# Altium schematic symbol library STM32H743ZI.SchLib: 1 symbol
Pins are listed as number, name and electrical type; pins without a type are passive.

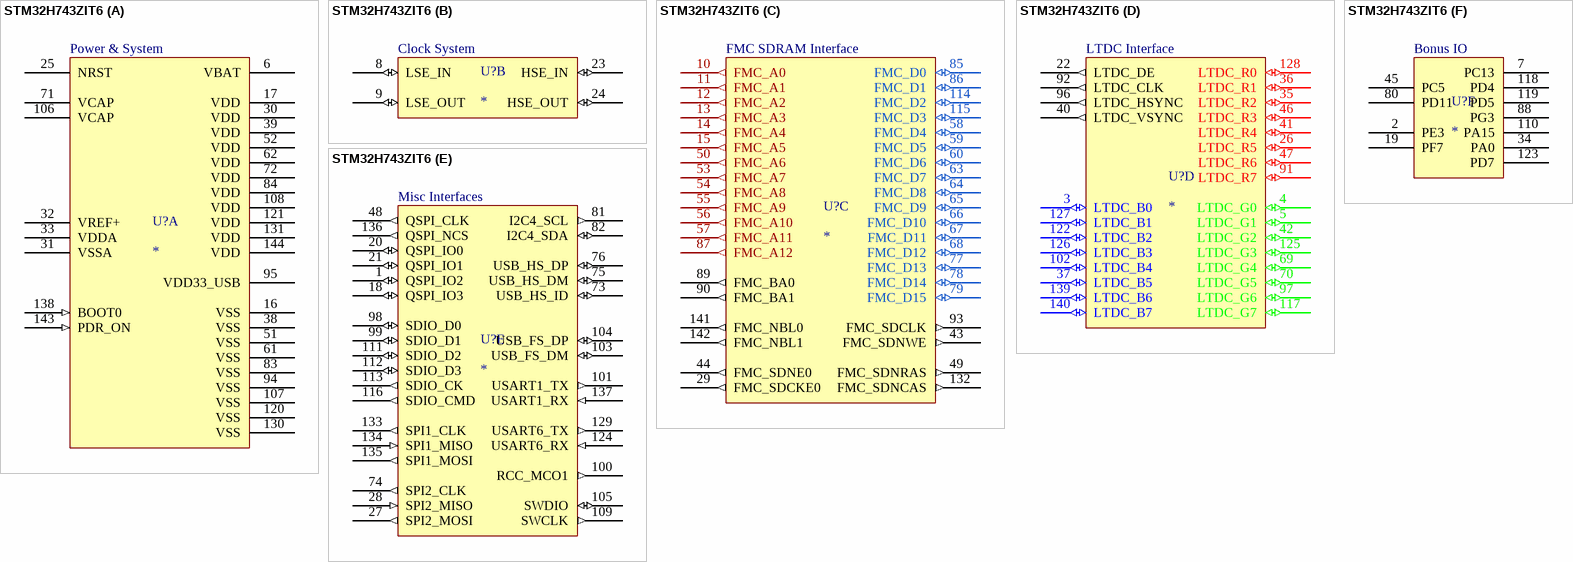
[diagram p0: symbol STM32H743ZIT6]

## STM32H743ZIT6
designator U?
footprint LQFP-144_20x20
part A pins: 6 VBAT (power), 16 VSS (power), 17 VDD (power), 25 NRST (power), 30 VDD (power), 31 VSSA (power), 32 VREF+ (power), 33 VDDA (power), 38 VSS (power), 39 VDD (power), 51 VSS (power), 52 VDD (power), 61 VSS (power), 62 VDD (power), 71 VCAP (power), 72 VDD (power), 83 VSS (power), 84 VDD (power), 94 VSS (power), 95 VDD33_USB (power), 106 VCAP (power), 107 VSS (power), 108 VDD (power), 120 VSS (power), 121 VDD (power), 130 VSS (power), 131 VDD (power), 138 BOOT0 (in), 143 PDR_ON (in), 144 VDD (power)
part B pins: 8 LSE_IN (io), 9 LSE_OUT (io), 23 HSE_IN (io), 24 HSE_OUT (io)
part C pins: 10 FMC_A0 (out), 11 FMC_A1 (out), 12 FMC_A2 (out), 13 FMC_A3 (out), 14 FMC_A4 (out), 15 FMC_A5 (out), 29 FMC_SDCKE0 (out), 43 FMC_SDNWE (out), 44 FMC_SDNE0 (out), 49 FMC_SDNRAS (out), 50 FMC_A6 (out), 53 FMC_A7 (out), 54 FMC_A8 (out), 55 FMC_A9 (out), 56 FMC_A10 (out), 57 FMC_A11 (out), 58 FMC_D4 (io), 59 FMC_D5 (io), 60 FMC_D6 (io), 63 FMC_D7 (io), 64 FMC_D8 (io), 65 FMC_D9 (io), 66 FMC_D10 (io), 67 FMC_D11 (io), 68 FMC_D12 (io), 77 FMC_D13 (io), 78 FMC_D14 (io), 79 FMC_D15 (io), 85 FMC_D0 (io), 86 FMC_D1 (io), 87 FMC_A12 (out), 89 FMC_BA0 (out), 90 FMC_BA1 (out), 93 FMC_SDCLK (out), 114 FMC_D2 (io), 115 FMC_D3 (io), 132 FMC_SDNCAS (out), 141 FMC_NBL0 (out), 142 FMC_NBL1 (out)
part D pins: 3 LTDC_B0 (io), 4 LTDC_G0 (io), 5 LTDC_G1 (io), 22 LTDC_DE (out), 26 LTDC_R5 (io), 35 LTDC_R2 (io), 36 LTDC_R1 (io), 37 LTDC_B5 (io), 40 LTDC_VSYNC (out), 41 LTDC_R4 (io), 42 LTDC_G2 (io), 46 LTDC_R3 (io), 47 LTDC_R6 (io), 69 LTDC_G4 (io), 70 LTDC_G5 (io), 91 LTDC_R7 (io), 92 LTDC_CLK (out), 96 LTDC_HSYNC (out), 97 LTDC_G6 (io), 102 LTDC_B4 (io), 117 LTDC_G7 (io), 122 LTDC_B2 (io), 125 LTDC_G3 (io), 126 LTDC_B3 (io), 127 LTDC_B1 (io), 128 LTDC_R0 (io), 139 LTDC_B6 (io), 140 LTDC_B7 (io)
part E pins: 1 QSPI_IO2 (io), 18 QSPI_IO3 (io), 20 QSPI_IO0 (io), 21 QSPI_IO1 (io), 27 SPI2_MOSI (out), 28 SPI2_MISO (in), 48 QSPI_CLK (out), 73 USB_HS_ID (io), 74 SPI2_CLK (out), 75 USB_HS_DM (io), 76 USB_HS_DP (io), 81 I2C4_SCL (out), 82 I2C4_SDA (io), 98 SDIO_D0 (io), 99 SDIO_D1 (io), 100 RCC_MCO1 (out), 101 USART1_TX (out), 103 USB_FS_DM (io), 104 USB_FS_DP (io), 105 SWDIO (io), 109 SWCLK (out), 111 SDIO_D2 (io), 112 SDIO_D3 (io), 113 SDIO_CK (out), 116 SDIO_CMD (out), 124 USART6_RX (in), 129 USART6_TX (out), 133 SPI1_CLK (out), 134 SPI1_MISO (in), 135 SPI1_MOSI (out), 136 QSPI_NCS (out), 137 USART1_RX (in)
part F pins: 2 PE3, 7 PC13, 19 PF7, 34 PA0, 45 PC5, 80 PD11, 88 PG3, 110 PA15, 118 PD4, 119 PD5, 123 PD7
part A text: Power & System
part B text: Clock System
part C text: FMC SDRAM Interface
part D text: LTDC Interface
part E text: Misc Interfaces
part F text: Bonus IO